# Altium schematic symbol library DXT3904-13.SchLib: 1 symbol
Pins are listed as number, name and electrical type; pins without a type are passive.

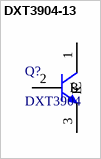
[diagram p0: symbol DXT3904-13]

## DXT3904-13
designator Q?, comment DXT3904
TRANS NPN 40V 0.2A SOT89-3; Manufacturer Part Number: DXT3904-13; Manufacturer: Diodes; Configuration: Single; Collector- Base Voltage VCBO: 60 V; Emitter- Base Voltage VEBO: 6 V; Collector-Emitter Saturation Voltage: 300 mV; Maximum DC Collector Current: 200 mA; Gain Bandwidth Product fT: 300 MHz; Brand: Diodes Incorporated; DC Collector/Base Gain hfe Min: 30 at 100 mA, 1 V; Pd - Power Dissipation: 1000 mW; Unit Weight: 0.001834 oz; Supplier 1: Digi-Key; Product Category: Bipolar Transistors - BJT; Mounting Style: SMD/SMT; Package / Case: SOT-89; Transistor Polarity: NPN; Collector- Emitter Voltage VCEO Max: 40 V; Maximum Operating Temperature: + 150 C; Series: DXT3904; Height: 1.5 mm; Length: 4.5 mm; Minimum Operating Temperature: - 55 C; Packaging: Reel; Factory Pack Quantity: 2500; Width: 2.48 mm; ComponentLink1URL: https://datasheet.ciiva.com/979/ds31141-979988.pdf; ComponentLink1Description: https://datasheet.ciiva.com/979/ds31141-979988.pdf; ComponentLink2URL: https://datasheet.ciiva.com/4724/ds31141-4724919.pdf; ComponentLink2Description: https://datasheet.ciiva.com/4724/ds31141-4724919.pdf; ComponentLink3URL: https://datasheet.ciiva.com/17303/ds31141-17303788.pdf; ComponentLink3Description: https://datasheet.ciiva.com/17303/ds31141-17303788.pdf; ComponentLink4URL: https://datasheet.ciiva.com/11206/ds31141-11206239.pdf; ComponentLink4Description: https://datasheet.ciiva.com/11206/ds31141-11206239.pdf; Supplier Part Number 1: DXT3904-13DICT-ND; Stock 1: 10942; Pricing 1: 1=0.53, 10=0.426, 100=0.29, 500=0.2175, 1000=0.1632 (USD); RoHS: True
pins: 1 C, 2 B, 3 E